# Altium schematic symbol library REF20xx.SCHLIB: 1 symbol
Pins are listed as number, name and electrical type; pins without a type are passive.

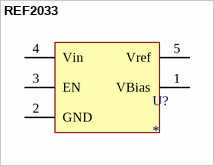
[diagram p0: symbol REF2033]

## REF2033
designator U?
Digikey Part-Number: 296-40487-1-ND
pins: 1 VBias, 2 GND, 3 EN, 4 Vin, 5 Vref